# EAGLE library part WE-DS_214612043 (library Wurth_Elektronik_Passive_rev16b)
WE-DS D-SUB-Filter Connectors Bent 90° Characteristics Standard type filtered with 1000 pF High attenuation of more than 40 dB @ 180 MHz Choice of earthing metal sheet or high speed earthing clip Rated voltage: 100 VDC Rated current @ 20 ºC: 5 A Withstand voltage: 250 VRMS Insulation resistance: min. 1000 MΩ Operating temperature: –55 ºC to +125 ºC Applications Filtering of interfaces External connection to -printer -sensor -display <http://katalog.we-online.de/media/thumbs2/eisos/thb_AbsDSubFilter_abgewinkelt_pf2.jpg> Details see: http://katalog.we-online.de/en/pbs/Filter_abgewinkelt Created on 2015-05-04 2015 (C) Wurth Elektronik
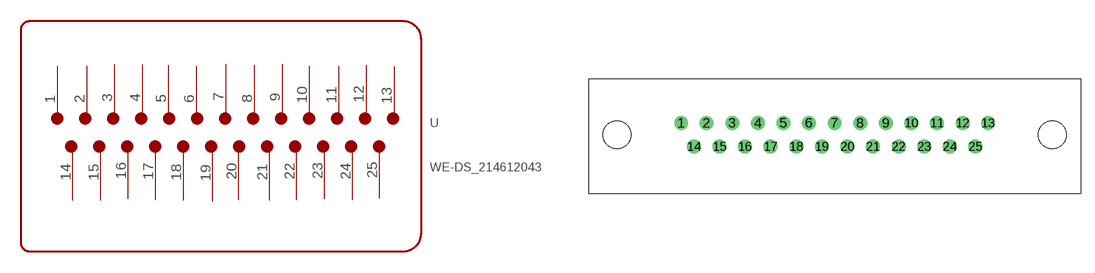
[diagram p204: symbol with the pads of WE-DS_214612043; footprint WE-DS_214612043]

Designator prefix -

## WE-DS_214612043  [WE-DS_214612043]
1  1
2  2
3  3
4  4
5  5
6  6
7  7
8  8
9  9
10  10
11  11
12  12
13  13
14  14
15  15
16  16
17  17
18  18
19  19
20  20
21  21
22  22
23  23
24  24
25  25

## Footprint WE-DS_214612043 (pad centres in mm)
drill 1: 1 -16.56,0; 2 -13.82,0; 3 -11.05,0; 4 -8.28,0; 5 -5.54,0; 6 -2.77,0; 7 0,0; 8 2.77,0; 9 5.54,0; 10 8.28,0; 11 11.05,0; 12 13.82,0; 13 16.56,0; 14 -15.19,-2.54; 15 -12.42,-2.54; 16 -9.68,-2.54; 17 -6.91,-2.54; 18 -4.14,-2.54; 19 -1.38,-2.54; 20 1.38,-2.54; 21 4.14,-2.54; 22 6.91,-2.54; 23 9.68,-2.54; 24 12.42,-2.54; 25 15.19,-2.54
hole 3 at -23.5,-1.27
hole 3 at 23.5,-1.27